# EAGLE library part AD620N (library MyLockIn)
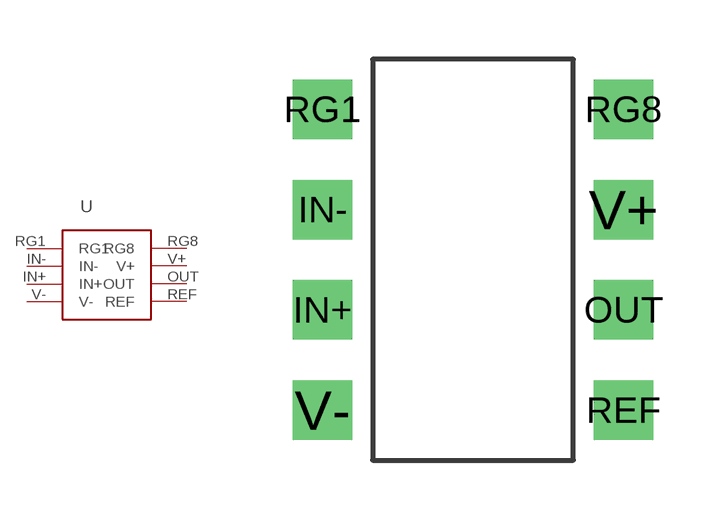
[diagram p0: symbol with the pads of AD620N; footprint AD620N]

Designator prefix -

## AD620N  [AD620N]
IN+  IN+
IN-  IN-
OUT  OUT
REF  REF
RG1  RG1
RG8  RG8
V+  V+
V-  V-

## Footprint AD620N (pad centres in mm)
drill 1 square: IN+ -5.08,0; IN- -5.08,2.54; OUT 2.54,0; REF 2.54,-2.54; RG1 -5.08,5.08; RG8 2.54,5.08; V+ 2.54,2.54; V- -5.08,-2.54